# Altium footprint library BORNERA9_5mm_TORNILLO.PcbLib: 1 footprints
Each footprint in its own frame and in the unit in brackets; x right, y up, seen from the top. Pads: shape width x height; smd on the part's side, far side on the other; paste and mask are expansions set on the pad; w line width, h text height; cw(c..) or ccw(c..) is an arc to the next point about the centre after c.
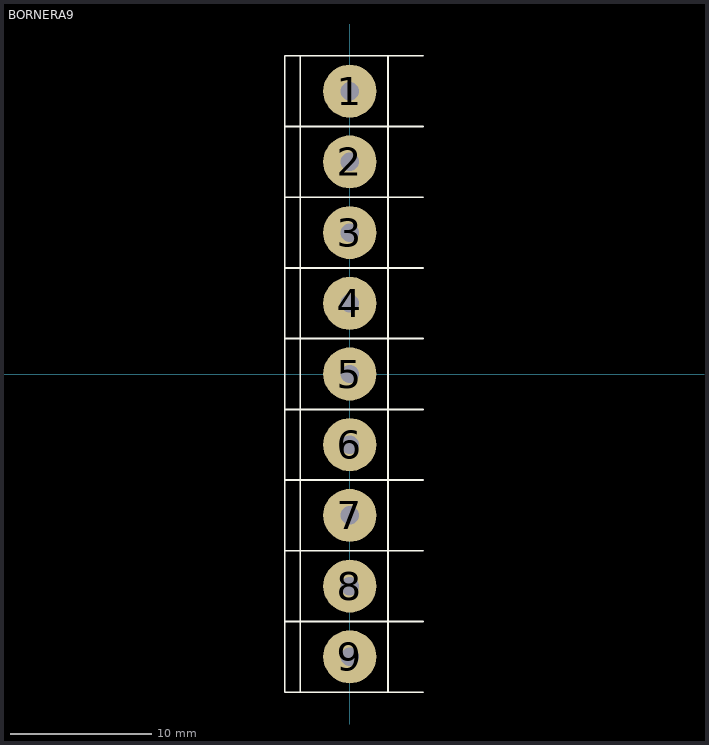
[diagram p0: the footprint, top view; thin cyan lines are the x and y axes]

## BORNERA9 [mm] "Bornera con Tornillos 5mm separación"
pads (9):
  round 3.75 hole 1.3: 1(0,20) 2(0,15) 3(0,10) 4(0,5) 5(0,0) 6(0,-5) 7(0,-10) 8(0,-15) 9(0,-20)
Top Overlay:
  lines w0.127: -4.6,-17.5 5.2,-17.5 ; -4.6,-12.5 5.2,-12.5 ; -4.6,-7.5 5.2,-7.5 ; -4.6,-2.5 5.2,-2.5 ; -4.6,2.5 5.2,2.5 ; -4.6,7.5 5.2,7.5 ; -4.6,12.5 5.2,12.5 ; -4.6,17.5 5.2,17.5 ; -3.5,-22.5 -3.5,22.5 ; 2.7,-22.5 2.7,22.5 ; 5.2,-22.5 -4.6,-22.5 -4.6,22.5 5.2,22.5
3D body: height 10.05, standoff -2.24, extent -3.763,7.608 3.937,23.108
3D body: height 10.05, standoff -2.24, extent -3.763,-7.392 3.937,8.107
3D body: height 10.05, standoff -2.24, extent -3.763,-22.392 3.937,-6.893